# Altium schematic symbol library SHMELib.SchLib: 382 symbols (part 3 of 3)
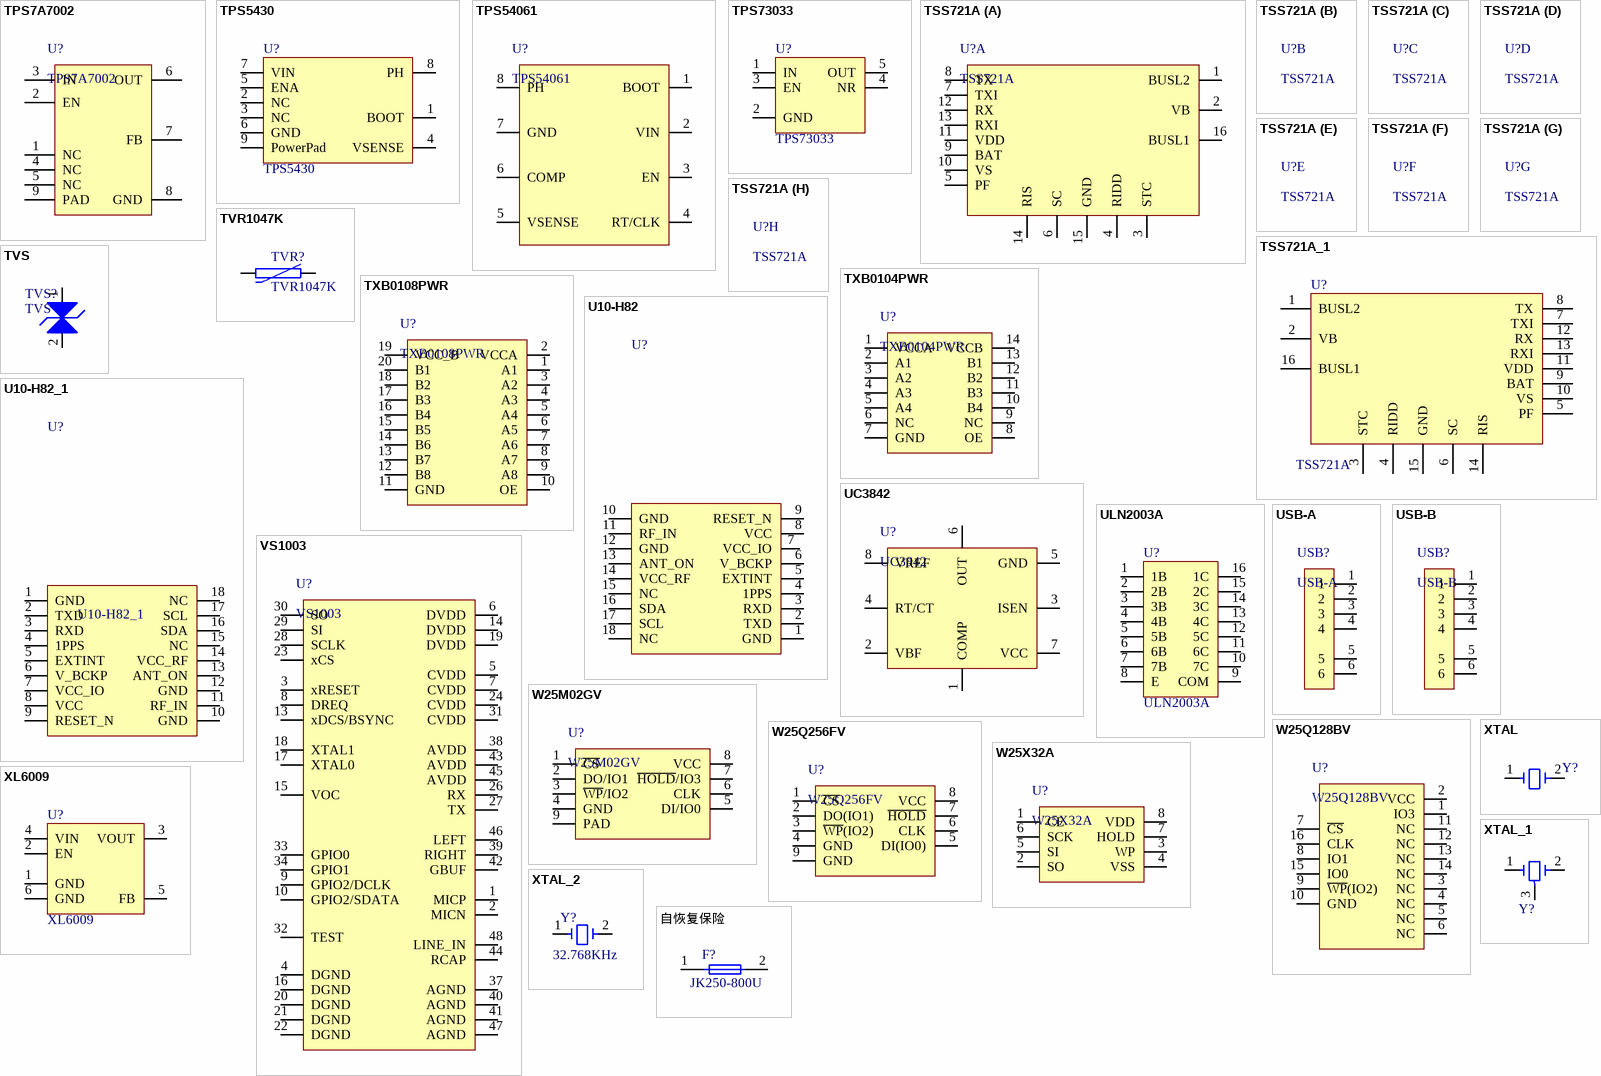
[diagram p20: symbols TPS7A7002 to 自恢复保险]

## VS1003
designator U?
footprint TQFP-48
pins: 1 MICP, 2 MICN, 3 xRESET, 4 DGND, 5 CVDD, 6 DVDD, 7 CVDD, 8 DREQ, 9 GPIO2/DCLK, 10 GPIO2/SDATA, 13 xDCS/BSYNC, 14 DVDD, 15 VOC, 16 DGND, 17 XTAL0, 18 XTAL1, 19 DVDD, 20 DGND, 21 DGND, 22 DGND, 23 xCS, 24 CVDD, 26 RX, 27 TX, 28 SCLK, 29 SI, 30 SO, 31 CVDD, 32 TEST, 33 GPIO0, 34 GPIO1, 37 AGND, 38 AVDD, 39 RIGHT, 40 AGND, 41 AGND, 42 GBUF, 43 AVDD, 44 RCAP, 45 AVDD, 46 LEFT, 47 AGND, 48 LINE_IN

## W25M02GV
designator U?
footprint WSON8X6-8
pins: 1 ~{CS}, 2 DO/IO1, 3 ~{WP}/IO2, 4 GND, 5 DI/IO0, 6 CLK, 7 ~{HOLD}/IO3, 8 VCC, 9 PAD

## W25Q128BV
designator U?
Nor Flash
footprint SOP-16
pins: 1 IO3, 2 VCC, 3 NC, 4 NC, 5 NC, 6 NC, 7 ~{CS}, 8 IO1, 9 ~{WP}(IO2), 10 GND, 11 NC, 12 NC, 13 NC, 14 NC, 15 IO0, 16 CLK

## W25Q256FV
designator U?
Nor Flash
footprint WSON8X6-8
pins: 1 ~{CS}, 2 DO(IO1), 3 ~{WP}(IO2), 4 GND, 5 DI(IO0), 6 CLK, 7 ~{HOLD}, 8 VCC, 9 GND

## W25X32A
designator U?
Nor Flash
footprint SOIC8
pins: 1 CE, 2 SO, 3 WP, 4 VSS, 5 SI, 6 SCK, 7 HOLD, 8 VDD

## XL6009
designator U?
400KHz 60V 4A Switching Current Boost Step Up
footprint TO-263-5
pins: 1 GND, 2 EN, 3 VOUT, 4 VIN, 5 FB, 6 GND

## XTAL
designator Y?  (value not drawn)
Crystal Oscillator; Value: 4MHz
footprint CRYSTAL-2
footprint XTAL3
footprint XTAL_SMT
footprint XTAL_FC-135
footprint XTAL_5032_2
pins: 1 OSC1, 2 OSC2

## XTAL_1
designator Y?, comment XTAL  (value not drawn)
Crystal Oscillator
footprint CRYSTAL-2
footprint XTAL-4
pins: 1 OSC1, 2 OSC2, 3

## XTAL_2
designator Y?, comment 32.768KHz
Crystal Oscillator
footprint CRYSTAL-2
footprint XTAL3
footprint XTAL_SMT
footprint XTAL_FC-135
footprint XTAL_5032_2
pins: 1 OSC1, 2 OSC2

## 自恢复保险
designator F?, comment JK250-800U
footprint 自恢复保险5.0间距
footprint 自恢复保险0.75A-240V (11.5*23.4间距5.1)
footprint UN250-800U (15*20间距5.1)
footprint UN250-800U
pins: 1, 2